# EAGLE library part BA3528/9AFP (library Audio-Power-amlifier V.2.0)
Pre / power amplifier and motor governor for 3V headphone stereos
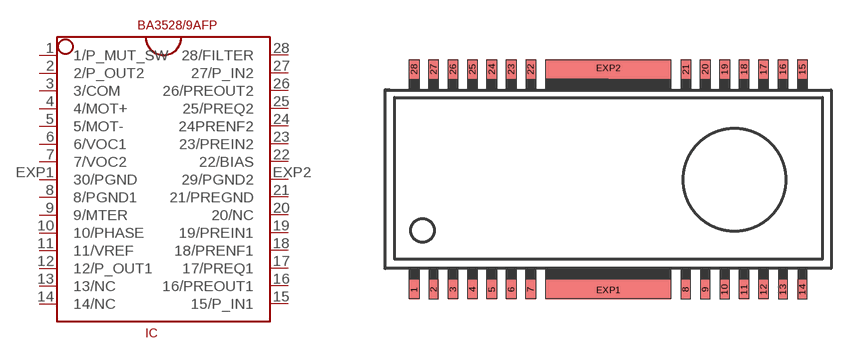
[diagram p45: symbol with the pads of HSOP28; footprint HSOP28]

Designator prefix IC

## BA3528/9AFP  [HSOP28]
1  1/P_MUT_SW
2  2/P_OUT2  out
3  3/COM
4  4/MOT+  out
5  5/MOT-  out
6  6/VOC1  pwr
7  7/VOC2  pwr
8  8/PGND1  pwr
9  9/MTER
10  10/PHASE
11  11/VREF
12  12/P_OUT1  out
13  13/NC  nc
14  14/NC  nc
15  15/P_IN1  in
16  16/PREOUT1  out
17  17/PREQ1
18  18/PRENF1
19  19/PREIN1  in
20  20/NC  nc
21  21/PREGND  pwr
22  22/BIAS
23  23/PREIN2  in
24  24PRENF2
25  25/PREQ2
26  26/PREOUT2  out
27  27/P_IN2  in
28  28/FILTER
EXP1  30/PGND  pwr
EXP2  29/PGND2  pwr

## Footprint HSOP28 (pad centres in mm)
smd 0.406 x 0.813: 1 -8,-4.545; 2 -7.2,-4.545; 3 -6.4,-4.545; 4 -5.6,-4.545; 5 -4.8,-4.545; 6 -4,-4.545; 7 -3.2,-4.545; 8 3.19,-4.545; 9 4,-4.545; 10 4.795,-4.545; 11 5.6,-4.545; 12 6.4,-4.545; 13 7.2,-4.545; 14 8,-4.545; 15 8,4.545; 16 7.2,4.545; 17 6.4,4.545; 18 5.6,4.545; 19 4.8,4.545; 20 4,4.545; 21 3.2,4.545; 22 -3.2,4.545; 23 -4,4.545; 24 -4.8,4.545; 25 -5.6,4.545; 26 -6.4,4.545; 27 -7.2,4.545; 28 -8,4.545
smd 0.813 x 0.406: EXP1 0.005,-4.57; EXP2 0,4.595